# EAGLE library part FPGA_MODUL_XC6SLX25 (library bitrecords)
Footprint für das BitRecords FPGA Modul XC6SLX25
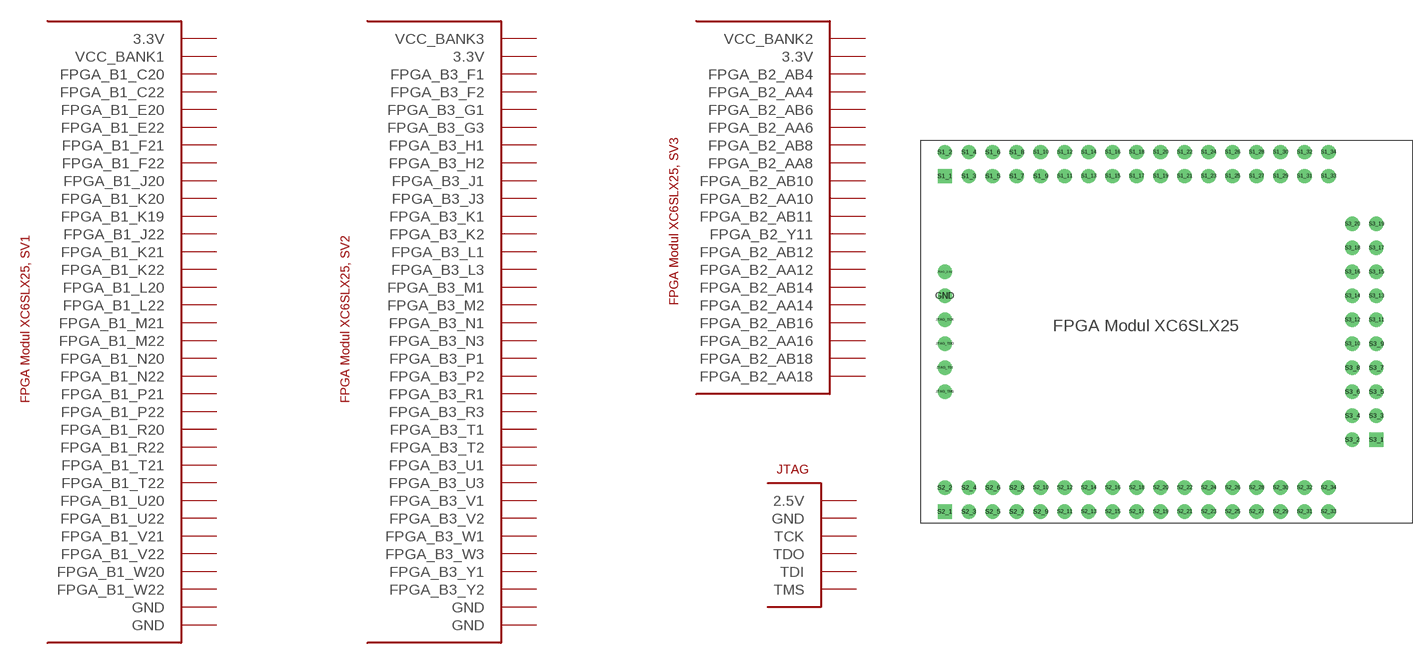
[diagram p3: symbol with the pads of XC6SLX25; footprint XC6SLX25]

Designator prefix -; gates G$1=XC6SLX25_S1 G$2=XC6SLX25_S2 G$3=XC6SLX25_S3 G$4=JTAG

## FPGA_MODUL_XC6SLX25  [XC6SLX25]
GND  G$4:GND  pwr
JTAG_2.5V  G$4:2.5V  sup
JTAG_TCK  G$4:TCK
JTAG_TDI  G$4:TDI
JTAG_TDO  G$4:TDO
JTAG_TMS  G$4:TMS
S1_1  G$1:3.3V  pwr
S1_2  G$1:VCC_BANK1  pwr
S1_3  G$1:FPGA_B1_C20
S1_4  G$1:FPGA_B1_C22
S1_5  G$1:FPGA_B1_E20
S1_6  G$1:FPGA_B1_E22
S1_7  G$1:FPGA_B1_F21
S1_8  G$1:FPGA_B1_F22
S1_9  G$1:FPGA_B1_J20
S1_10  G$1:FPGA_B1_K20
S1_11  G$1:FPGA_B1_K19
S1_12  G$1:FPGA_B1_J22
S1_13  G$1:FPGA_B1_K21
S1_14  G$1:FPGA_B1_K22
S1_15  G$1:FPGA_B1_L20
S1_16  G$1:FPGA_B1_L22
S1_17  G$1:FPGA_B1_M21
S1_18  G$1:FPGA_B1_M22
S1_19  G$1:FPGA_B1_N20
S1_20  G$1:FPGA_B1_N22
S1_21  G$1:FPGA_B1_P21
S1_22  G$1:FPGA_B1_P22
S1_23  G$1:FPGA_B1_R20
S1_24  G$1:FPGA_B1_R22
S1_25  G$1:FPGA_B1_T21
S1_26  G$1:FPGA_B1_T22
S1_27  G$1:FPGA_B1_U20
S1_28  G$1:FPGA_B1_U22
S1_29  G$1:FPGA_B1_V21
S1_30  G$1:FPGA_B1_V22
S1_31  G$1:FPGA_B1_W20
S1_32  G$1:FPGA_B1_W22
S1_33  G$1:GND  pwr
S1_34  G$1:GND  pwr
S2_1  G$2:VCC_BANK3  pwr
S2_2  G$2:3.3V  pwr
S2_3  G$2:FPGA_B3_F1
S2_4  G$2:FPGA_B3_F2
S2_5  G$2:FPGA_B3_G1
S2_6  G$2:FPGA_B3_G3
S2_7  G$2:FPGA_B3_H1
S2_8  G$2:FPGA_B3_H2
S2_9  G$2:FPGA_B3_J1
S2_10  G$2:FPGA_B3_J3
S2_11  G$2:FPGA_B3_K1
S2_12  G$2:FPGA_B3_K2
S2_13  G$2:FPGA_B3_L1
S2_14  G$2:FPGA_B3_L3
S2_15  G$2:FPGA_B3_M1
S2_16  G$2:FPGA_B3_M2
S2_17  G$2:FPGA_B3_N1
S2_18  G$2:FPGA_B3_N3
S2_19  G$2:FPGA_B3_P1
S2_20  G$2:FPGA_B3_P2
S2_21  G$2:FPGA_B3_R1
S2_22  G$2:FPGA_B3_R3
S2_23  G$2:FPGA_B3_T1
S2_24  G$2:FPGA_B3_T2
S2_25  G$2:FPGA_B3_U1
S2_26  G$2:FPGA_B3_U3
S2_27  G$2:FPGA_B3_V1
S2_28  G$2:FPGA_B3_V2
S2_29  G$2:FPGA_B3_W1
S2_30  G$2:FPGA_B3_W3
S2_31  G$2:FPGA_B3_Y1
S2_32  G$2:FPGA_B3_Y2
S2_33  G$2:GND  pwr
S2_34  G$2:GND  pwr
S3_1  G$3:VCC_BANK2  pwr
S3_2  G$3:3.3V  pwr
S3_3  G$3:FPGA_B2_AB4
S3_4  G$3:FPGA_B2_AA4
S3_5  G$3:FPGA_B2_AB6
S3_6  G$3:FPGA_B2_AA6
S3_7  G$3:FPGA_B2_AB8
S3_8  G$3:FPGA_B2_AA8
S3_9  G$3:FPGA_B2_AB10
S3_10  G$3:FPGA_B2_AA10
S3_11  G$3:FPGA_B2_AB11
S3_12  G$3:FPGA_B2_Y11
S3_13  G$3:FPGA_B2_AB12
S3_14  G$3:FPGA_B2_AA12
S3_15  G$3:FPGA_B2_AB14
S3_16  G$3:FPGA_B2_AA14
S3_17  G$3:FPGA_B2_AB16
S3_18  G$3:FPGA_B2_AA16
S3_19  G$3:FPGA_B2_AB18
S3_20  G$3:FPGA_B2_AA18

## Footprint XC6SLX25 (pad centres in mm)
drill 1: GND -20.32,3.81; JTAG_2.5V -20.32,6.35; JTAG_TCK -20.32,1.27; JTAG_TDI -20.32,-3.81; JTAG_TDO -20.32,-1.27; JTAG_TMS -20.32,-6.35; S1_2 -20.32,19.05; S1_3 -17.78,16.51; S1_4 -17.78,19.05; S1_5 -15.24,16.51; S1_6 -15.24,19.05; S1_7 -12.7,16.51; S1_8 -12.7,19.05; S1_9 -10.16,16.51; S1_10 -10.16,19.05; S1_11 -7.62,16.51; S1_12 -7.62,19.05; S1_13 -5.08,16.51; S1_14 -5.08,19.05; S1_15 -2.54,16.51; S1_16 -2.54,19.05; S1_17 0,16.51; S1_18 0,19.05; S1_19 2.54,16.51; S1_20 2.54,19.05; S1_21 5.08,16.51; S1_22 5.08,19.05; S1_23 7.62,16.51; S1_24 7.62,19.05; S1_25 10.16,16.51; S1_26 10.16,19.05; S1_27 12.7,16.51; S1_28 12.7,19.05; S1_29 15.24,16.51; S1_30 15.24,19.05; S1_31 17.78,16.51; S1_32 17.78,19.05; S1_33 20.32,16.51; S1_34 20.32,19.05; S2_2 -20.32,-16.51; S2_3 -17.78,-19.05; S2_4 -17.78,-16.51; S2_5 -15.24,-19.05; S2_6 -15.24,-16.51; S2_7 -12.7,-19.05; S2_8 -12.7,-16.51; S2_9 -10.16,-19.05; S2_10 -10.16,-16.51; S2_11 -7.62,-19.05; S2_12 -7.62,-16.51; S2_13 -5.08,-19.05; S2_14 -5.08,-16.51; S2_15 -2.54,-19.05; S2_16 -2.54,-16.51; S2_17 0,-19.05; S2_18 0,-16.51; S2_19 2.54,-19.05; S2_20 2.54,-16.51; S2_21 5.08,-19.05; S2_22 5.08,-16.51; S2_23 7.62,-19.05; S2_24 7.62,-16.51; S2_25 10.16,-19.05; S2_26 10.16,-16.51; S2_27 12.7,-19.05; S2_28 12.7,-16.51; S2_29 15.24,-19.05; S2_30 15.24,-16.51; S2_31 17.78,-19.05; S2_32 17.78,-16.51; S2_33 20.32,-19.05; S2_34 20.32,-16.51; S3_2 22.86,-11.43; S3_3 25.4,-8.89; S3_4 22.86,-8.89; S3_5 25.4,-6.35; S3_6 22.86,-6.35; S3_7 25.4,-3.81; S3_8 22.86,-3.81; S3_9 25.4,-1.27; S3_10 22.86,-1.27; S3_11 25.4,1.27; S3_12 22.86,1.27; S3_13 25.4,3.81; S3_14 22.86,3.81; S3_15 25.4,6.35; S3_16 22.86,6.35; S3_17 25.4,8.89; S3_18 22.86,8.89; S3_19 25.4,11.43; S3_20 22.86,11.43
drill 1 square: S1_1 -20.32,16.51; S2_1 -20.32,-19.05; S3_1 25.4,-11.43